# Altium footprint library GANSYS_ALTIUM_FOOTPRINT_RELEASE_20190603.PcbLib: 14 footprints
Each footprint in its own frame and in the unit in brackets; x right, y up, seen from the top. Pads: shape width x height; smd on the part's side, far side on the other; paste and mask are expansions set on the pad; w line width, h text height; cw(c..) or ccw(c..) is an arc to the next point about the centre after c.
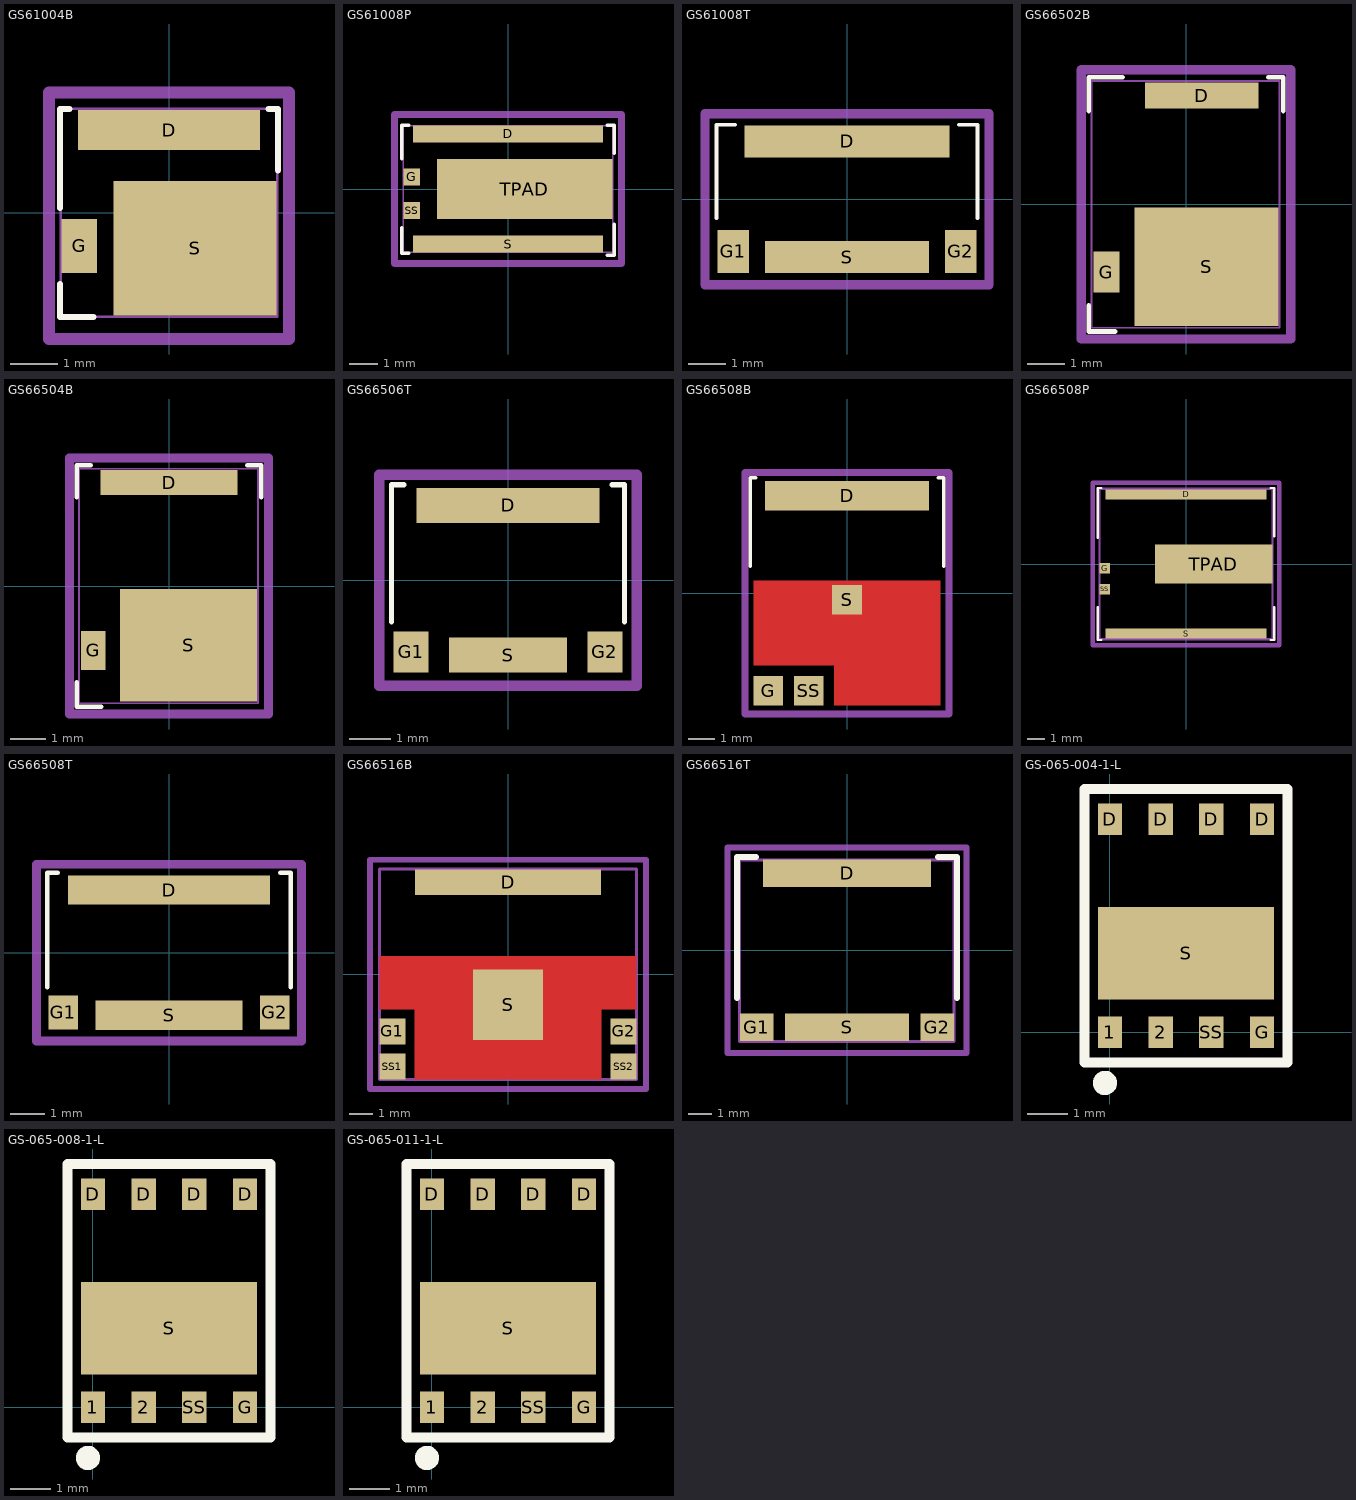
[diagram p0: the footprints below, top view; thin cyan lines are the x and y axes]

## GS61004B [mm] "GAN TRANS E-MODE 100V 45A"
height 0.45
pads (3):
  rect 3.85x0.85 smd: D(0,1.75)
  rect 0.75x1.15 smd: G(-1.9,-0.7)
  rect 3.45x2.85 smd: S(0.55,-0.75)
Top Overlay:
  lines w0.127: -2.3,-1.5 -2.3,-2.2 -1.6,-2.2 ; -2.3,0.1 -2.3,2.2 -2.1,2.2 ; 2.1,2.2 2.3,2.2 2.3,0.9
Mechanical 1:
  lines w0.05: -2.286,-2.2 -2.286,2.2 2.286,2.2 2.286,-2.2 -2.286,-2.2
Mechanical 5:
  lines w0.254: -2.54,-2.667 2.54,-2.667 2.54,2.54 -2.54,2.54 -2.54,-2.667
  text ".Designator" at -2.159,-0.635 h1.5
3D body: height 0.5, standoff 0, extent -2.286,-2.222 2.286,2.223

## GS61008P [mm] "GAN TRANS E-MODE 100V 90A"
height 0.45
pads (5):
  rect 6.8x0.6 smd: D(0,1.97) S(0,-1.97)
  rect 0.6x0.6 smd: G(-3.45,0.43) SS(-3.45,-0.77)
  rect 6.3x2.14 smd: TPAD(0.6,0)
Top Overlay:
  lines w0.127: -3.81,-1.397 -3.81,-2.297 -3.556,-2.297 ; -3.81,1.086 -3.81,2.286 -3.556,2.286 ; 3.556,-2.37 3.81,-2.37 3.81,-1.27 ; 3.556,2.286 3.81,2.286 3.81,1.286
Mechanical 1:
  lines w0.05: -3.75,-2.27 3.75,-2.27 3.75,2.27 -3.75,2.27 -3.75,-2.27
Mechanical 5:
  lines w0.254: -4.064,-2.667 -4.064,2.667 4.064,2.667 4.064,-2.667 -4.064,-2.667
  text ".Designator" at -3.048,-0.508 h2.54
3D body: height 0.5, standoff 0, extent -3.75,-2.27 3.75,2.27

## GS61008T [mm] "GAN TRANS EMODE 100V 90A TOP SIDE COOLED"
height 0.5
pads (4):
  rect 5.5x0.85 smd paste-0.1: D(0,1.55)
  rect 0.85x1.15 smd paste-0.1: G1(-3.05,-1.4)
  rect 0.85x1.15 smd: G2(3.05,-1.4)
  rect 4.4x0.85 smd paste-0.1: S(0,-1.55)
Top Overlay:
  lines w0.102: -3.5,-0.5 -3.5,2 -3,2 ; 3,2 3.5,2 3.5,-0.5
Mechanical 5:
  lines w0.254: -3.81,-2.3 -3.81,2.3 3.81,2.3 3.81,-2.3 -3.81,-2.3
  text ".Designator" at -3.048,-0.254 h2.54
3D body: height 0.5, standoff 0, extent -3.5,-2 3.5,2

## GS66502B [mm] "GAN TRANS E-MODE 650V"
height 0.45
pads (3):
  rect 3.03x0.7 smd: D(0.42,2.91)
  rect 0.7x1.1 smd: G(-2.13,-1.81)
  rect 3.86x3.17 smd: S(0.55,-1.67)
Top Overlay:
  lines w0.127: -2.6,-2.7 -2.6,-3.4 -1.9,-3.4 ; -2.6,2.5 -2.6,3.4 -1.7,3.4 ; 2.2,3.4 2.6,3.4 2.6,2.5
Mechanical 1:
  lines w0.05: -2.53,-3.3 2.5,-3.3 2.5,3.3 -2.53,3.3 -2.53,-3.3
Mechanical 5:
  lines w0.254: -2.8,-3.6 -2.8,3.6 2.8,3.6 2.8,-3.6 -2.8,-3.6
  text ".Designator" at -2.4,-0.3 h1.5
3D body: height 0.5, standoff 0, extent -2.5,-3.3 2.5,3.3

## GS66504B [mm] "GAN TRANS E-MODE 650V"
height 0.45
pads (3):
  rect 3.86x0.7 smd: D(0,2.91)
  rect 0.7x1.1 smd: G(-2.13,-1.81)
  rect 3.86x3.17 smd: S(0.55,-1.67)
Top Overlay:
  lines w0.127: -2.6,-2.7 -2.6,-3.4 -1.9,-3.4 ; -2.6,2.5 -2.6,3.4 -2.2,3.4 ; 2.2,3.4 2.6,3.4 2.6,2.5
Mechanical 1:
  lines w0.05: -2.53,-3.3 2.5,-3.3 2.5,3.3 -2.53,3.3 -2.53,-3.3
Mechanical 5:
  lines w0.254: -2.8,-3.6 -2.8,3.6 2.8,3.6 2.8,-3.6 -2.8,-3.6
  text ".Designator" at -2.4,-0.3 h1.5
3D body: height 0.5, standoff 0, extent -2.5,-3.3 2.5,3.3

## GS66506T [mm] "GAN TRANS EMODE 650V 23A TOP SIDE COOL"
height 0.54
pads (4):
  rect 4.4x0.84 smd paste-0.1: D(0,1.8)
  rect 0.84x0.99 smd paste-0.1: G1(-2.33,-1.72)
  rect 0.84x0.99 smd: G2(2.33,-1.72)
  rect 2.83x0.84 smd paste-0.1: S(0,-1.8)
Top Overlay:
  lines w0.127: -2.8,-1 -2.8,2.3 -2.5,2.3 ; 2.5,2.3 2.8,2.3 2.8,-1
Mechanical 5:
  lines w0.254: -3.1,-2.54 3.1,-2.54 3.1,2.54 -3.1,2.54 -3.1,-2.54
  text ".Designator" at -2,-0.7 h2.54
3D body: height 0.5, standoff 0, extent -2.75,-2.25 2.75,2.25

## GS66508B [mm] "GAN TRANS E-MODE 650V 30A"
height 0.45
pads (4):
  rect 6.1x1.1 smd: D(0,3.63)
  rect 1.1x1.1 smd: G(-2.93,-3.63) S(0,-0.25) SS(-1.42,-3.63)
Top Layer:
  region: -3.475,0.475 3.475,0.475 3.475,-4.175 -0.475,-4.175 -0.475,-2.675 -3.475,-2.675
Top Overlay:
  lines w0.127: -3.6,1 -3.6,4.3 -3.4,4.3 ; 3.4,4.3 3.6,4.3 3.6,1
Top Paste:
  region: -3.475,0.475 3.475,0.475 3.475,-4.175 -0.475,-4.175 -0.475,-2.675 -3.475,-2.675
Top Solder:
  region: -3.475,0.475 3.475,0.475 3.475,-4.175 -0.475,-4.175 -0.475,-2.675 -3.475,-2.675
Mechanical 5:
  lines w0.254: -3.8,-4.5 3.8,-4.5 3.8,4.5 -3.8,4.5 -3.8,-4.5
  text ".Designator" at -2.8,0.1 h2.5
3D body: height 0.5, standoff 0, extent -3.5,-4.2 3.5,4.2

## GS66508P [mm] "GAN TRANS E-MODE 650V 34A"
height 0.45
pads (5):
  rect 9.3x0.6 smd: D(0,4.02) S(0,-4.02)
  rect 0.6x0.6 smd: G(-4.7,-0.25) SS(-4.7,-1.45)
  rect 6.8x2.23 smd: TPAD(1.6,0)
Top Overlay:
  lines w0.127: -5.1,-2.5 -5.1,-4.4 -4.9,-4.4 ; -5.1,1.5 -5.1,4.4 -4.9,4.4 ; 4.9,-4.4 5.1,-4.4 5.1,-2.5 ; 4.9,4.4 5.1,4.4 5.1,1.6
Mechanical 1:
  lines w0.127: -5,-4.35 -5,4.35 5,4.35 5,-4.35 -5,-4.35
Mechanical 5:
  lines w0.254: -5.4,-4.7 5.4,-4.7 5.4,4.7 -5.4,4.7 -5.4,-4.7
  text ".Designator" at -4.3,-0.9 h3.81
3D body: height 0.5, standoff 0, extent -5,-4.35 5,4.35

## GS66508T [mm] "GAN TRANS EMODE 650V 30A TOP SIDE COOL"
height 0.54
pads (4):
  rect 5.81x0.84 smd paste-0.1: D(0,1.8)
  rect 0.84x0.99 smd paste-0.1: G1(-3.04,-1.72)
  rect 0.84x0.99 smd: G2(3.04,-1.72)
  rect 4.24x0.84 smd paste-0.1: S(0,-1.8)
Top Overlay:
  lines w0.127: -3.5,-1 -3.5,2.3 -3.2,2.3 ; 3.2,2.3 3.5,2.3 3.5,-1
Mechanical 5:
  lines w0.254: -3.81,-2.54 -3.81,2.54 3.81,2.54 3.81,-2.54 -3.81,-2.54
  text ".Designator" at -3.048,-0.254 h2.54
3D body: height 0.5, standoff 0.05, extent -3.5,-2.25 3.5,2.25

## GS66516B [mm] "GAN TRANS EMODE 650V 60A BOT SIDE COOL"
height 0.43
pads (6):
  rect 7.97x1.1 smd: D(0,3.94)
  rect 1.1x1.1 smd: G1(-4.94,-2.44) G2(4.94,-2.44) SS1(-4.94,-3.94) SS2(4.94,-3.94)
  rect 3x3 smd: S(0,-1.3)
Top Layer:
  region: -5.485,0.785 5.485,0.785 5.485,-1.485 3.985,-1.485 3.985,-4.485 -3.985,-4.485 -3.985,-1.485 -5.485,-1.485
Mechanical 1:
  lines w0.127: -5.5,-4.5 5.5,-4.5 5.5,4.5 -5.5,4.5 -5.5,-4.5
Mechanical 5:
  lines w0.254: -5.9,-4.9 5.9,-4.9 5.9,4.9 -5.9,4.9 -5.9,-4.9
  text ".Designator" at -4.1,-0.1 h3.81
3D body: height 0.5, standoff 0, extent -5.5,-4.5 5.5,4.5

## GS66516T [mm] "GAN TRANS EMODE 650V 60A TOP SIDE COOL"
height 0.5
pads (4):
  rect 7.04x1.15 smd: D(0,3.22)
  rect 1.4x1.15 smd: G1(-3.77,-3.22) G2(3.77,-3.22)
  rect 5.17x1.15 smd: S(0,-3.22)
Top Overlay:
  lines w0.254: -4.6,-2 -4.6,3.9 -3.8,3.9 ; 3.8,3.9 4.6,3.9 4.6,-2
Mechanical 1:
  lines w0.127: -4.5,-3.825 -4.5,3.775 4.475,3.775 4.475,-3.825 -4.5,-3.825
Mechanical 5:
  lines w0.254: -5,-4.3 -5,4.3 5,4.3 5,-4.3 -5,-4.3
  text ".Designator" at -4.064,-1.016 h3.81
3D body: height 0.5, standoff 0, extent -4.5,-3.8 4.5,3.8

## GS-065-004-1-L [mil] "GAN TRANS E-MODE 650V 3.5A"
height 33.46
pads (9):
  rect 24x31 smd: 1(0,0) 2(50,0) D(0,210) D(50,210) D(100,210) D(150,210) G(150,0) SS(100,0)
  rect 174x91 smd: S(75,78)
Top Overlay:
  circle w12: c-5,-50 r6
  lines w10: -25,-30 -25,240 175,240 175,-30 -25,-30

## GS-065-008-1-L [mil] "GAN TRANS E-MODE 650V 8A"
height 33.46
pads (9):
  rect 24x31 smd: 1(0,0) 2(50,0) D(0,210) D(50,210) D(100,210) D(150,210) G(150,0) SS(100,0)
  rect 174x91 smd: S(75,78)
Top Overlay:
  circle w12: c-5,-50 r6
  lines w10: -25,-30 175,-30 175,240 -25,240 -25,-30

## GS-065-011-1-L [mil] "GAN TRANS E-MODE 650V 11A"
height 33.46
pads (9):
  rect 24x31 smd: 1(0,0) 2(50,0) D(0,210) D(50,210) D(100,210) D(150,210) G(150,0) SS(100,0)
  rect 174x91 smd: S(75,78)
Top Overlay:
  circle w12: c-5,-50 r6
  lines w10: -25,-30 -25,240 175,240 175,-30 -25,-30